# Altium integrated library OPA847IDBVT.IntLib: 1 symbol
Pins are listed as number, name and electrical type; pins without a type are passive.

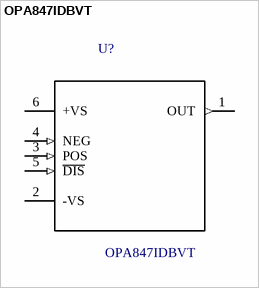
[diagram p0: symbol OPA847IDBVT]

## OPA847IDBVT
designator U?
Value: *
footprint *SOT95P280X145-6N
pins: 1 OUT (out), 2 -VS (power), 3 POS (in), 4 NEG (in), 5 ~{DIS} (in), 6 +VS (power)